# EAGLE library part HEADER-13 (library homemade-hardware)
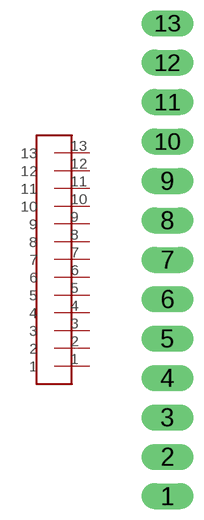
[diagram p10: symbol with the pads of HEADER-13; footprint HEADER-13]

Designator prefix -

## HEADER-13  [HEADER-13]
1  1
2  2
3  3
4  4
5  5
6  6
7  7
8  8
9  9
10  10
11  11
12  12
13  13

## Footprint HEADER-13 (pad centres in mm)
drill 1.016 pad 1.676 long: 1 0,0; 2 0,2.54; 3 0,5.08; 4 0,7.62; 5 0,10.16; 6 0,12.7; 7 0,15.24; 8 0,17.78; 9 0,20.32; 10 0,22.86; 11 0,25.4; 12 0,27.94; 13 0,30.48